# EAGLE library part 8205A (library lipo)
DUAL N-CHANNEL MOSFET The 8205A uses advanced trench technology to provide excellent RDS(ON), low gate charge and operation with gate voltages as low as 2.5V. This device is suitable for use as a Battery protection or in other Switching application.
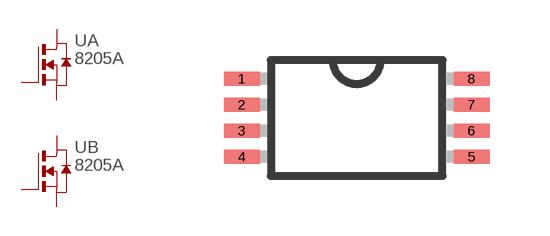
[diagram p0: symbol with the pads of TSSOP8; footprint TSSOP8]

Designator prefix -; gates A=N_MOSFET B=N_MOSFET

## 8205A  [TSSOP8]
1  A:D  pas
2  A:S  pas
3  A:S  pas
4  A:G  pas
5  B:G  pas
6  B:S  pas
7  B:S  pas
8  B:D  pas

## Footprint TSSOP8 (pad centres in mm)
8-Lead Thin Shrink Small Outline Package Source: http://www.analog.com/static/imported-files/data_sheets/AD8541_8542_8544.pdf
smd 0.9 x 0.35: 1 -2.875,0.975; 2 -2.875,0.325; 3 -2.875,-0.325; 4 -2.875,-0.975; 5 2.875,-0.975; 6 2.875,-0.325; 7 2.875,0.325; 8 2.875,0.975